# EAGLE library part SN74ABT18245A (library be_logic)
edited: Mario Blunk
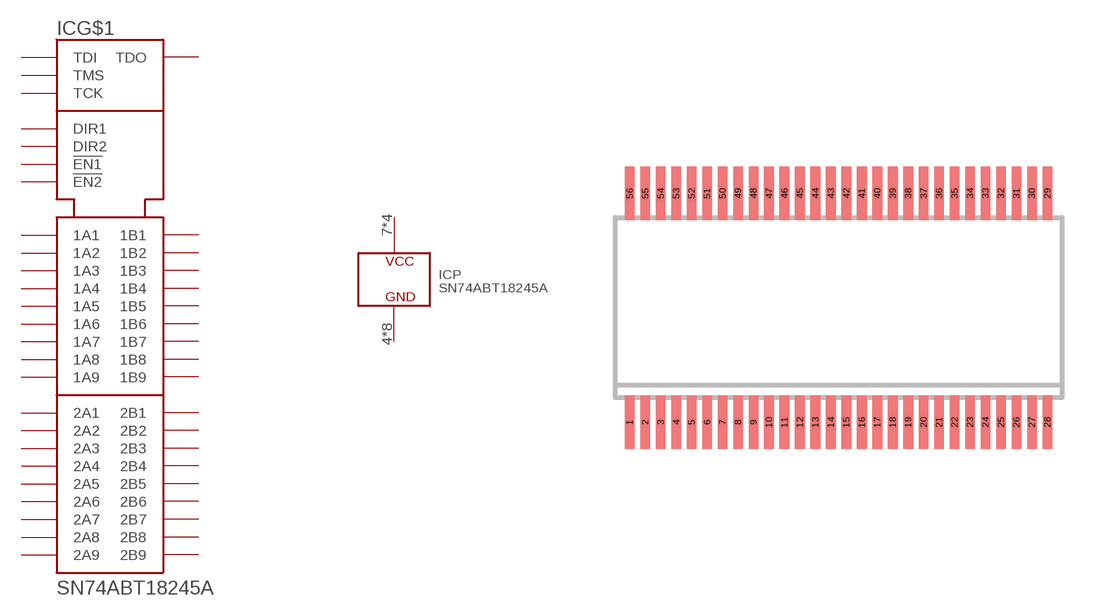
[diagram p1: symbol with the pads of SSOP56; footprint SSOP56]

Designator prefix IC; gates G$1=SN74ABT18245A P=PWR

## SN74ABT18245ADL (BOM: YES; COMMISSIONED: 2014-09-06; PART_CODE_BEL: IC_PAC_S_SSOP56_VAL_SN74ABT18245A)  [SSOP56]
1  G$1:DIR1  in
2  G$1:1B1
3  G$1:1B2
4  P:GND  pwr
5  G$1:1B3
6  G$1:1B4
7  P:VCC  pwr
8  G$1:1B5
9  G$1:1B6
10  G$1:1B7
11  P:GND  pwr
12  G$1:1B8
13  G$1:1B9
14  G$1:2B1
15  G$1:2B2
16  G$1:2B3
17  G$1:2B4
18  P:GND  pwr
19  G$1:2B5
20  G$1:2B6
21  G$1:2B7
22  P:VCC  pwr
23  G$1:2B8
24  G$1:2B9
25  P:GND  pwr
26  G$1:DIR2  in
27  G$1:TDO  oc
28  G$1:TMS  in
29  G$1:TCK  in
30  G$1:TDI  in
31  G$1:!EN2  in
32  P:GND  pwr
33  G$1:2A9
34  G$1:2A8
35  P:VCC  pwr
36  G$1:2A7
37  G$1:2A6
38  G$1:2A5
39  P:GND  pwr
40  G$1:2A4
41  G$1:2A3
42  G$1:2A2
43  G$1:2A1
44  G$1:1A9
45  G$1:1A8
46  P:GND  pwr
47  G$1:1A7
48  G$1:1A6
49  G$1:1A5
50  P:VCC  pwr
51  G$1:1A4
52  G$1:1A3
53  P:GND  pwr
54  G$1:1A2
55  G$1:1A1
56  G$1:!EN1  in

## Footprint SSOP56 (pad centres in mm)
SSOP56
smd 0.4 x 2.2: 1 -8.573,-4.7; 2 -7.938,-4.7; 3 -7.303,-4.7; 4 -6.668,-4.7; 5 -6.033,-4.7; 6 -5.398,-4.7; 7 -4.763,-4.7; 8 -4.128,-4.7; 9 -3.493,-4.7; 10 -2.858,-4.7; 11 -2.223,-4.7; 12 -1.588,-4.7; 13 -0.953,-4.7; 14 -0.318,-4.7; 15 0.318,-4.7; 16 0.953,-4.7; 17 1.588,-4.7; 18 2.223,-4.7; 19 2.858,-4.7; 20 3.493,-4.7; 21 4.128,-4.7; 22 4.763,-4.7; 23 5.398,-4.7; 24 6.033,-4.7; 25 6.668,-4.7; 26 7.303,-4.7; 27 7.938,-4.7; 28 8.573,-4.7; 29 8.573,4.7; 30 7.938,4.7; 31 7.303,4.7; 32 6.668,4.7; 33 6.033,4.7; 34 5.398,4.7; 35 4.763,4.7; 36 4.128,4.7; 37 3.493,4.7; 38 2.858,4.7; 39 2.223,4.7; 40 1.588,4.7; 41 0.953,4.7; 42 0.318,4.7; 43 -0.318,4.7; 44 -0.953,4.7; 45 -1.588,4.7; 46 -2.223,4.7; 47 -2.858,4.7; 48 -3.493,4.7; 49 -4.128,4.7; 50 -4.763,4.7; 51 -5.398,4.7; 52 -6.033,4.7; 53 -6.668,4.7; 54 -7.303,4.7; 55 -7.938,4.7; 56 -8.573,4.7